# Altium footprint library SIP10_2_2MM_SMD.PcbLib: 1 footprints
Each footprint in its own frame and in the unit in brackets; x right, y up, seen from the top. Pads: shape width x height; smd on the part's side, far side on the other; paste and mask are expansions set on the pad; w line width, h text height; cw(c..) or ccw(c..) is an arc to the next point about the centre after c.
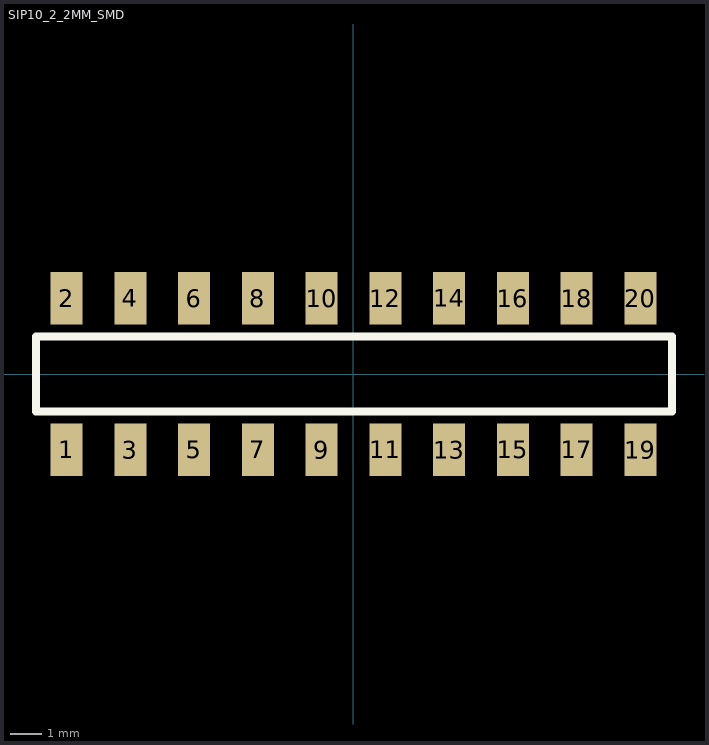
[diagram p0: the footprint, top view; thin cyan lines are the x and y axes]

## SIP10_2_2MM_SMD [mm]
pads (20):
  rect 1x1.65 smd: 1(-9,-2.375) 2(-9,2.375) 3(-7,-2.375) 4(-7,2.375) 5(-5,-2.375) 6(-5,2.375) 7(-3,-2.375) 8(-3,2.375) 9(-1,-2.375) 10(-1,2.375) 11(1,-2.375) 12(1,2.375) 13(3,-2.375) 14(3,2.375) 15(5,-2.375) 16(5,2.375) 17(7,-2.375) 18(7,2.375) 19(9,-2.375) 20(9,2.375)
Top Overlay:
  lines w0.254: -9.965,-1.181 -9.965,1.181 9.999,1.181 9.999,-1.181 -9.965,-1.181
3D body: height 6.5, standoff 0, extent -9.958,-3.287 9.992,3.213